# Altium footprint library R0603.PcbLib: 1 footprints
Each footprint in its own frame and in the unit in brackets; x right, y up, seen from the top. Pads: shape width x height; smd on the part's side, far side on the other; paste and mask are expansions set on the pad; w line width, h text height; cw(c..) or ccw(c..) is an arc to the next point about the centre after c.
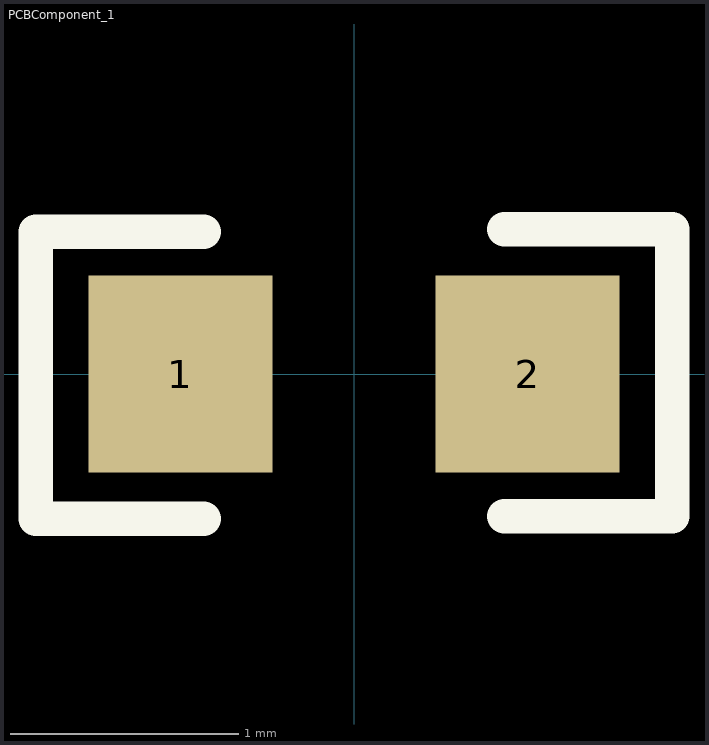
[diagram p0: the footprint, top view; thin cyan lines are the x and y axes]

## PCBComponent_1 [mil]
pads (2):
  rect 31.75x34.02 smd: 1(-30,0) 2(30,0)
Top Overlay:
  lines w6: -26,-25 -55,-25 -55,24.59 -26,24.59 ; 26,-24.59 55,-24.59 55,25 26,25
3D body "L0603.SLDPRT": height 19.85, standoff 0.16, extent -31.17,-15.12 31.82,16.38